# EAGLE library part THAT2180 (library that-corp)
VCA Trimmable IC
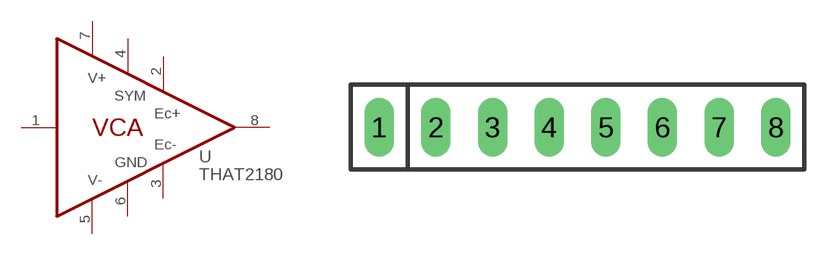
[diagram p2: symbol with the pads of SIP8; footprint SIP8]

Designator prefix U

## THAT2180  [SIP8]
1  IN  in
2  EC+  pas
3  EC-  out
4  SYM  pas
5  V-  pwr
6  GND  pas
7  V+  pwr
8  OUT  out

## Footprint SIP8 (pad centres in mm)
SIP-9 9 Pin SIP IC
drill 0.813 long: 1 -10.16,0; 2 -7.62,0; 3 -5.08,0; 4 -2.54,0; 5 0,0; 6 2.54,0; 7 5.08,0; 8 7.62,0